# Altium integrated library Linear Technology PMIC-Switching Reg LTC1174-LTC3901.IntLib: 2647 symbols (part 87 of 310)
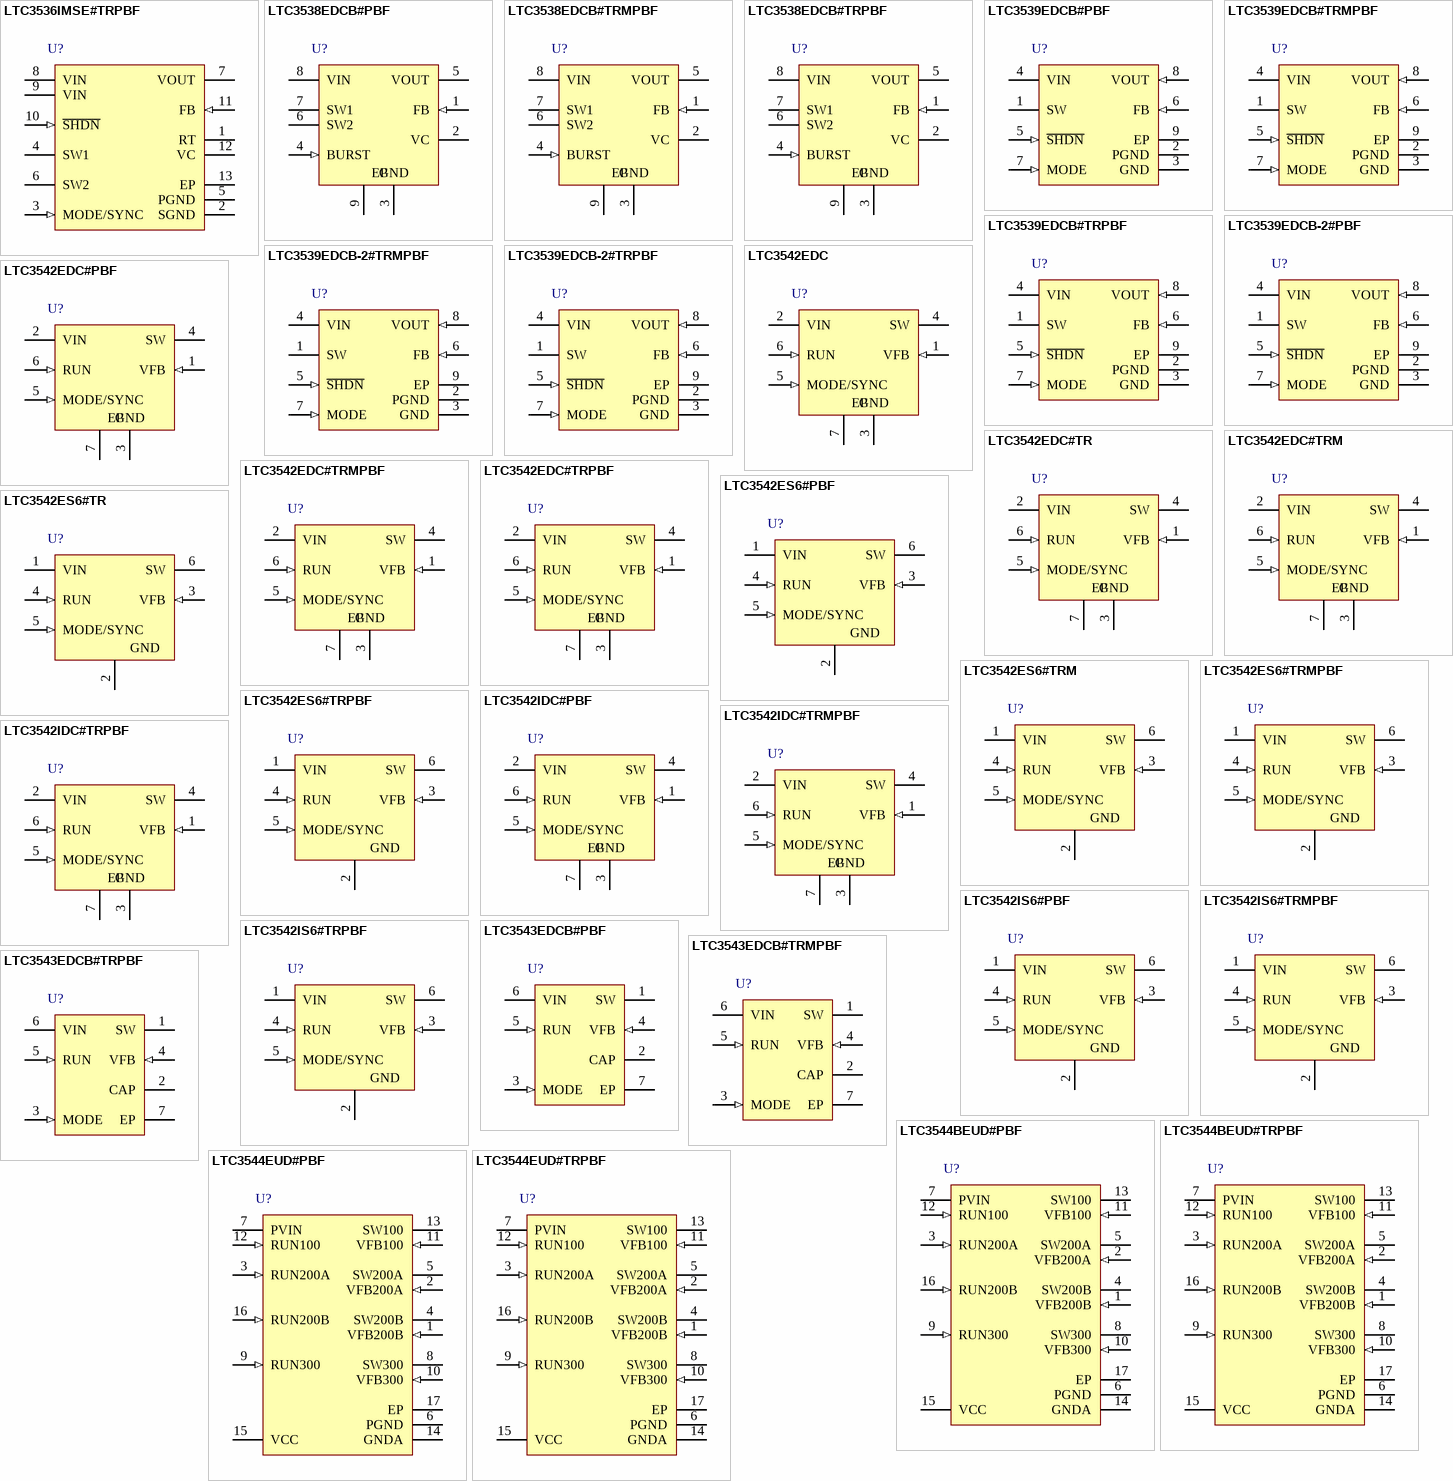
[diagram p264: symbols LTC3536IMSE#TRPBF to LTC3544EUD#TRPBF]

## LTC3539EDCB-2#TRMPBF
designator U?
2 A, 1 MHz / 2 MHz Synchronous Step-Up DC/DC Converter, 8-pin SON (DCB-8), -40 to 85 degC, Pb-Free, Mini Tape and Reel; Manufacturer: Linear Technology; PartNumber: LTC3539EDCB-2#TRMPBF; Number of Outputs: 1; PackageReference: DCB-8; PackageDescription: 8-Pin Plastic DFN, Body 2 x 3 mm, Pitch 0.45 mm; Supplier 1: Digi-Key; Supplier Part Number 1: LTC3539EDCB-2#TRMPBF-ND; RoHS: TRUE
footprint LT-DCB-8_V (SON, 8-Leads, Body 3x2mm, Pitch 0.45mm, Thermal Pad 1.65x1.35mm)
pins: 1 SW "Switch Pin. Connect inductor between SW and VIN. Keep PCB trace lengths as short and wide as possible to reduce EMI. If the inductor current falls to zero, or SHDN is low, an internal anti-ring resistor is connected from SW (See Datasheet)", 2 PGND (power) "Signal and Power Ground. Provide a short direct PCB path between PGND, GND and the (-) side of the input and output capacitors.", 3 GND (power) "Signal and Power Ground. Provide a short direct PCB path between PGND, GND and the (-) side of the input and output capacitors.", 4 VIN (power) "Battery Input Voltage. Connect a minimum of 2.2uF ceramic decoupling capacitor from this pin to ground.", 5 ~{SHDN} (in) "Logic Controlled Shutdown Input. There is an internal 4Mohm pull-down on this pin. S\H\D\N\ = High: Normal operation. S\H\D\N\ = Low: Shutdown, quiescent current <1uA.", 6 FB (in) "Feedback Input to the gm Error Amplifier.Connect resistor divider tap to this pin. The output voltage can be adjusted from 1.5V to 5.25V by: VOUT = 1.20V ?[1 + (R2/R1)]", 7 MODE (in) "Burst Mode Pin. A logic controlled input to select either automatic Burst Mode operation or forced fixed frequency operation. MODE = High: Burst Mode operation at light loads. MODE = Low: Fixed frequency PWM Mode.", 8 VOUT (in) "Output Voltage Sense and Drain of the Internal Synchronous Rectifier. PCB trace length from VOUT to the output filter capacitor should be as short and wide as possible.", 9 EP (power) "The exposed pad must be soldered to the PCB ground plane. It serves as another ground connection, and as a means of conducting heat away from the die."

## LTC3539EDCB-2#TRPBF
designator U?
2 A, 1 MHz / 2 MHz Synchronous Step-Up DC/DC Converter, 8-pin SON (DCB-8), -40 to 85 degC, Pb-Free, Tape and Reel; Manufacturer: Linear Technology; PartNumber: LTC3539EDCB-2#TRPBF; Number of Outputs: 1; PackageReference: DCB-8; PackageDescription: 8-Pin Plastic DFN, Body 2 x 3 mm, Pitch 0.45 mm; Supplier 1: Digi-Key; Supplier Part Number 1: LTC3539EDCB-2#TRPBF-ND; RoHS: TRUE
footprint LT-DCB-8_V (SON, 8-Leads, Body 3x2mm, Pitch 0.45mm, Thermal Pad 1.65x1.35mm)
pins: 1 SW "Switch Pin. Connect inductor between SW and VIN. Keep PCB trace lengths as short and wide as possible to reduce EMI. If the inductor current falls to zero, or SHDN is low, an internal anti-ring resistor is connected from SW (See Datasheet)", 2 PGND (power) "Signal and Power Ground. Provide a short direct PCB path between PGND, GND and the (-) side of the input and output capacitors.", 3 GND (power) "Signal and Power Ground. Provide a short direct PCB path between PGND, GND and the (-) side of the input and output capacitors.", 4 VIN (power) "Battery Input Voltage. Connect a minimum of 2.2uF ceramic decoupling capacitor from this pin to ground.", 5 ~{SHDN} (in) "Logic Controlled Shutdown Input. There is an internal 4Mohm pull-down on this pin. S\H\D\N\ = High: Normal operation. S\H\D\N\ = Low: Shutdown, quiescent current <1uA.", 6 FB (in) "Feedback Input to the gm Error Amplifier.Connect resistor divider tap to this pin. The output voltage can be adjusted from 1.5V to 5.25V by: VOUT = 1.20V ?[1 + (R2/R1)]", 7 MODE (in) "Burst Mode Pin. A logic controlled input to select either automatic Burst Mode operation or forced fixed frequency operation. MODE = High: Burst Mode operation at light loads. MODE = Low: Fixed frequency PWM Mode.", 8 VOUT (in) "Output Voltage Sense and Drain of the Internal Synchronous Rectifier. PCB trace length from VOUT to the output filter capacitor should be as short and wide as possible.", 9 EP (power) "The exposed pad must be soldered to the PCB ground plane. It serves as another ground connection, and as a means of conducting heat away from the die."

## LTC3542EDC
designator U?
500 mA, 2.25 MHz Synchronous Step-Down DC/DC Converter, 6-pin SON (DC6-6), -40 to 85 degC; Manufacturer: Linear Technology; PartNumber: LTC3542EDC; Number of Outputs: 1; PackageReference: DC6-6; PackageDescription: 6-Pin Plastic DFN, Body 2 x 2 mm, Pitch 0.5 mm; RoHS: FALSE; Code_JEDEC: MO-229
footprint LT-DC6-6_V (SON, 6-Leads, Body 2x2mm, Pitch 0.5mm, Thermal Pad 1.42x0.61mm)
pins: 1 VFB (in) "Output Feedback Pin. Receives the feedback voltage from an external resistive divider across the output. Nominal voltage for this pin is 0.6V.", 2 VIN (power) "Power Supply Pin. Must be closely decoupled to GND.", 3 GND (power) "Ground Pin.", 4 SW (power) "Switch Node Connection to Inductor. This pin connects to the drains of the internal main and synchronous power MOSFET switches.", 5 MODE/SYNC (in) "Mode Selection and Oscillator Synchronization Pin. This pin controls the operation of the device. When tied to GND or VIN, Burst Mode operation or pulse skipping mode is selected, respectively. Do not float this pin. The (See Datasheet)", 6 RUN (in) "Converter Enable Pin. Forcing this pin above 1.5V enables this part, while forcing it below 0.3V causes the device to shut down. In shutdown, all functions are disabled drawing <1uA supply current. This pin must be driven; (See Datasheet)", 7 EP (power) "Exposed Pad. The Exposed Pad is ground. It must be soldered to PCB ground to provide both electrical contact and optimum thermal performance."